# EAGLE library part SA556D (library ST_Microelctronics_By_element14_Batch_1)
General-purpose dual bipolar timers
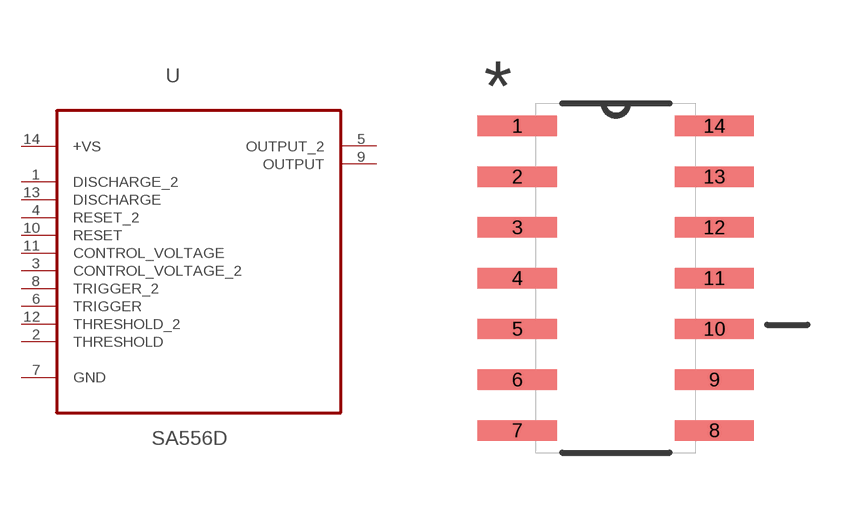
[diagram p290: symbol with the pads of SOIC127P600X175-14N; footprint SOIC127P600X175-14N]

Designator prefix U

## SA556D (MPN: SA556D; OC_FARNELL: 1737172; OC_NEWARK: 57P0110; PACKAGE: SOIC-14; SUPPLIER: STMICROELECTRONICS)  [SOIC127P600X175-14N]
1  DISCHARGE_2  pas
2  THRESHOLD  in
3  CONTROL_VOLTAGE_2  in
4  RESET_2  in
5  OUTPUT_2  out
6  TRIGGER  in
7  GND  pas
8  TRIGGER_2  in
9  OUTPUT  out
10  RESET  in
11  CONTROL_VOLTAGE  in
12  THRESHOLD_2  in
13  DISCHARGE  pas
14  +VS  pwr

## Footprint SOIC127P600X175-14N (pad centres in mm)
smd 1.981 x 0.508: 1 -2.464,3.81; 2 -2.464,2.54; 3 -2.464,1.27; 4 -2.464,0; 5 -2.464,-1.27; 6 -2.464,-2.54; 7 -2.464,-3.81; 8 2.464,-3.81; 9 2.464,-2.54; 10 2.464,-1.27; 11 2.464,0; 12 2.464,1.27; 13 2.464,2.54; 14 2.464,3.81